# Altium schematic symbol library LEDSC160X320X90.SchLib: 1 symbol
Pins are listed as number, name and electrical type; pins without a type are passive.

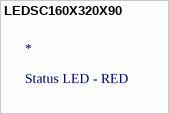
[diagram p0: symbol LEDSC160X320X90]

## LEDSC160X320X90
designator *, comment Status LED - RED
footprint LEDSC160X320X90-2N